# EAGLE library part EYSGJNAWY-WX (library mille-feuille)
TAIYO YUDEN Bluetooth® 4.1 low energy https://www.yuden.co.jp/jp/product/category/module/EYSGJNAWY-WX.html https://www.yuden.co.jp/wireless_module/document/datareport2/jp/TY_BLE_EYSGJNAWY_WX_BriefDataReport_V1_3_20170925J.pdf
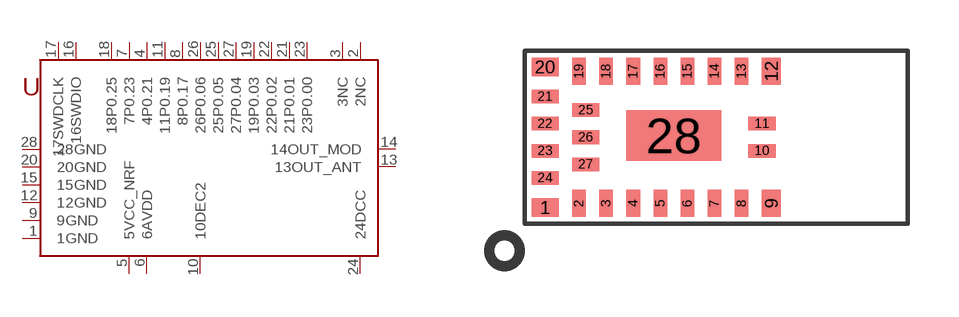
[diagram p56: symbol with the pads of EYSGJNAWY-WX; footprint EYSGJNAWY-WX]

Designator prefix U

## EYSGJNAWY-WX  [EYSGJNAWY-WX]
1  1GND
2  2NC
3  3NC
4  4P0.21
5  5VCC_NRF
6  6AVDD
7  7P0.23
8  8P0.17
9  9GND
10  10DEC2
11  11P0.19
12  12GND
13  13OUT_ANT
14  14OUT_MOD
15  15GND
16  16SWDIO
17  17SWDCLK
18  18P0.25
19  19P0.03
20  20GND
21  21P0.01
22  22P0.02
23  23P0.00
24  24DCC
25  25P0.05
26  26P0.06
27  27P0.04
28  28GND

## Footprint EYSGJNAWY-WX (pad centres in mm)
smd 0.8 x 0.55: 1 -3.8,-2.125; 20 -3.8,2.025
smd 0.4 x 0.8: 2 -2.8,-2; 3 -2,-2; 4 -1.2,-2; 5 -0.4,-2; 6 0.4,-2; 7 1.2,-2; 8 2,-2; 13 2,1.9; 14 1.2,1.9; 15 0.4,1.9; 16 -0.4,1.9; 17 -1.2,1.9; 18 -2,1.9; 19 -2.8,1.9
smd 0.55 x 0.8: 9 2.875,-2; 12 2.875,1.9
smd 0.8 x 0.4: 10 2.6,-0.45; 11 2.6,0.35; 21 -3.8,1.15; 22 -3.8,0.35; 23 -3.8,-0.45; 24 -3.8,-1.25; 25 -2.6,0.75; 26 -2.6,-0.05; 27 -2.6,-0.85
smd 2.8 x 1.5: 28 0,0